# Altium integrated library STM32.IntLib: 732 symbols (part 90 of 99)
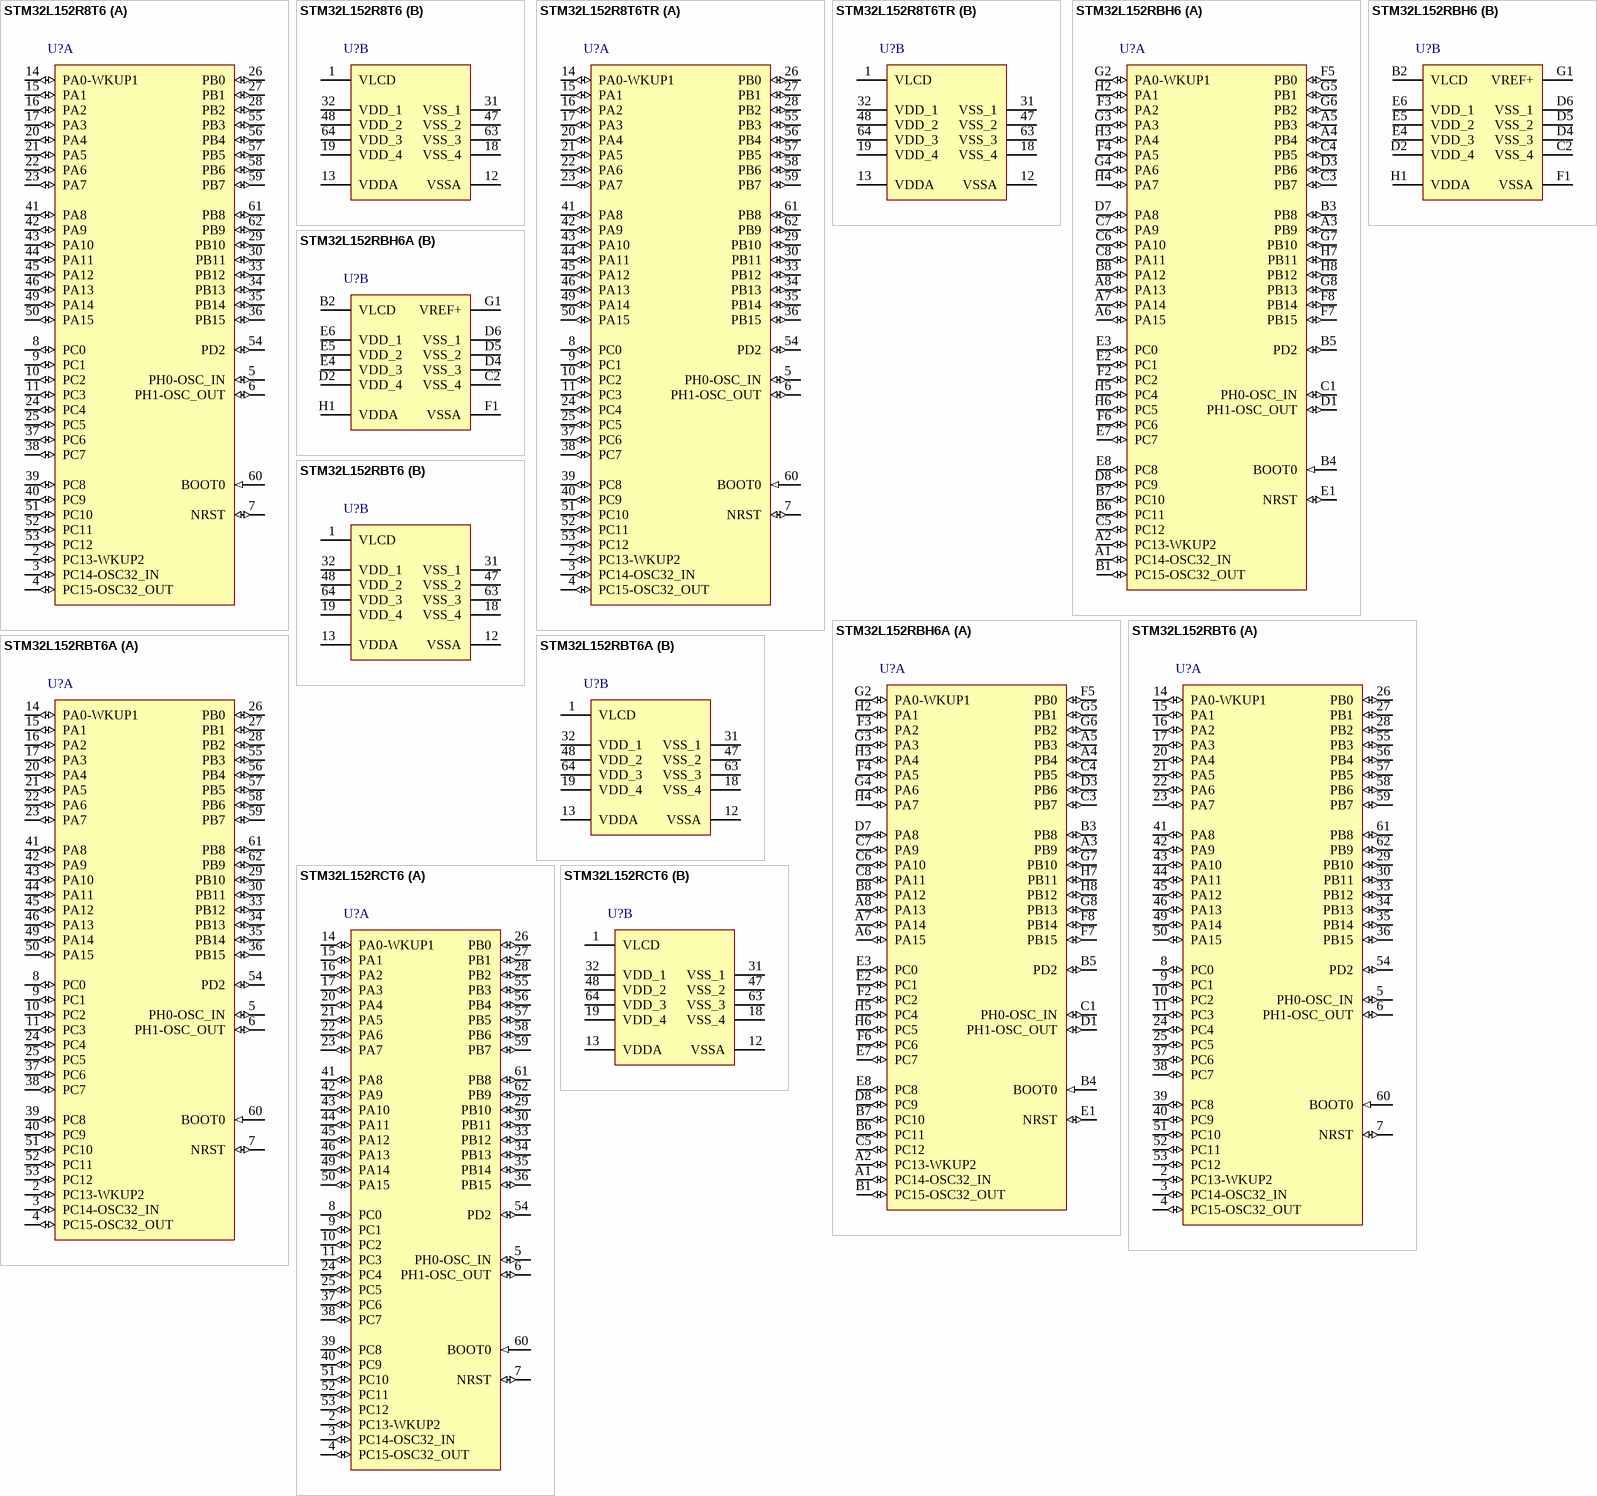
[diagram p243: symbols STM32L152R8T6 to STM32L152RCT6]

## STM32L152RCT6
designator U?
ARM Cortex-M3 32-bit MCU, 256 KB Flash, 32 KB Internal RAM, 51 I/Os, 64-pin LQFP, -40 to 85 degC, Tray; Manufacturer: STMicroelectronics; PartNumber: STM32L152RCT6; D/A Converter: 2x12-bit (2 Channel); Data E2PROM nom (B): 8192; Display controller: LCD 4x32/8x28; FLASH Size (Prog) (kB): 256; I/Os (High Current): 51; Internal RAM Size (kB): 32; Supply Voltage(Vcc) min (V): 1.65; DatasheetVersion: Rev. 3; PackageVersion: Rev. 4, 06/2013; PackageReference: LQFP64; PackageDescription: 64-Pin Low Profile Quad Flat Package, 10 x 10 mm Body, 0.5 mm Pitch; Core: ARM Cortex-M3; Operating Frequency(F) (Processor speed) (MHz): 32; Packing: Tray; Mounting Technology: Surface Mount; ComponentLink1Description: Manufacturer URL; ComponentLink1URL: http://www.st.com/web/en/home.html; ComponentLink2Description: Datasheet; ComponentLink2URL: http://www.st.com/st-web-ui/static/active/en/resource/technical/document/datasheet/DM00048356.pdf; ComponentLink3Description: Package Specification; ComponentLink3URL: http://www.st.com/st-web-ui/static/active/en/resource/technical/document/datasheet/DM00037051.pdf
footprint STM-LQFP64_N (Thin QFP, 64-Leads, Body 10x10mm, Pitch 0.5mm, IPC Medium Density)
footprint STM-LQFP64_L (Thin QFP, 64-Leads, Body 10x10mm, Pitch 0.5mm, IPC High Density)
footprint STM-LQFP64_M (Thin QFP, 64-Leads, Body 10x10mm, Pitch 0.5mm, IPC Low Density)
footprint STM-LQFP64_V (Thin QFP, 64-Leads, Body 10x10mm, Pitch 0.5mm, ST Recommended)
part A pins: 2 PC13-WKUP2 (io) "PC13-WKUP2/PC13/WKUP2/RTC_TAMP1/RTC_TS/RTC_OUT", 3 PC14-OSC32_IN (io) "PC14-OSC32_IN/PC14/OSC32_IN", 4 PC15-OSC32_OUT (io) "PC15-OSC32_OUT/PC15/OSC32_OUT", 5 PH0-OSC_IN (io) "PH0-OSC_IN/PH0/OSC_IN", 6 PH1-OSC_OUT (io) "PH1-OSC_OUT/PH1/OSC_OUT", 7 NRST (io), 8 PC0 (io) "PC0/LCD_SEG18/ADC_IN10/COMP1_INP", 9 PC1 (io) "PC1/LCD_SEG19/ADC_IN11/COMP1_INP", 10 PC2 (io) "PC2/LCD_SEG20/ADC_IN12/COMP1_INP", 11 PC3 (io) "PC3/LCD_SEG21/ADC_IN13/COMP1_INP", 14 PA0-WKUP1 (io) "PA0-WKUP1/PA0/WKUP1/RTC_TAMP2/TIM2_CH1_ETR/TIM5_CH1/USART2_CTS/ADC_IN0/COMP1_INP", 15 PA1 (io) "PA1/TIM2_CH2/TIM5_CH2/USART2_RTS/LCD_SEG0/ADC_IN1/COMP1_INP/OPAMP1_VINP", 16 PA2 (io) "PA2/TIM2_CH3/TIM5_CH3/TIM9_CH1/USART2_TX/LCD_SEG1/ADC_IN2/COMP1_INP/OPAMP1_VINM", 17 PA3 (io) "PA3/TIM2_CH4/TIM5_CH4/TIM9_CH2/USART2_RX/LCD_SEG2/ADC_IN3/COMP1_INP/OPAMP1_VOUT", 20 PA4 (io) "PA4/SPI1_NSS/SPI3_NSS/I2S3_WS/USART2_CK/ADC_IN4/DAC_OUT1/COMP1_INP", 21 PA5 (io) "PA5/TIM2_CH1_ETR/SPI1_SCK/ADC_IN5/DAC_OUT2/COMP1_INP", 22 PA6 (io) "PA6/TIM3_CH1/TIM10_CH1/SPI1_MISO/LCD_SEG3/ADC_IN6/COMP1_INP/OPAMP2_VINP", 23 PA7 (io) "PA7/TIM3_CH2/TIM11_CH1/SPI1_MOSI/LCD_SEG4/ADC_IN7/COMP1_INP/OPAMP2_VINM", 24 PC4 (io) "PC4/LCD_SEG22/ADC_IN14/COMP1_INP", 25 PC5 (io) "PC5/LCD_SEG23/ADC_IN15/COMP1_INP", 26 PB0 (io) "PB0/TIM3_CH3/LCD_SEG5/ADC_IN8/COMP1_INP/VREF_OUT/OPAMP2_VOUT", 27 PB1 (io) "PB1/TIM3_CH4/LCD_SEG6/ADC_IN9/COMP1_INP/VREF_OUT", 28 PB2 (io) "PB2/BOOT1/COMP1_INP", 29 PB10 (io) "PB10/TIM2_CH3/I2C2_SCL/USART3_TX/LCD_SEG10", 30 PB11 (io) "PB11/TIM2_CH4/I2C2_SDA/USART3_RX/LCD_SEG11", 33 PB12 (io) "PB12/TIM10_CH1/I2C2_SMBA/SPI2_NSS/I2S2_WS/USART3_CK/LCD_SEG12/ADC_IN18/COMP1_INP", 34 PB13 (io) "PB13/TIM9_CH1/SPI2_SCK/I2S2_CK/USART3_CTS/LCD_SEG13/ADC_IN19/COMP1_INP", 35 PB14 (io) "PB14/TIM9_CH2/SPI2_MISO/USART3_RTS/LCD_SEG14/ADC_IN20/COMP1_INP", 36 PB15 (io) "PB15/TIM11_CH1/SPI2_MOSI/I2S2_SD/LCD_SEG15/ADC_IN21/COMP1_INP/RTC_REFIN", 37 PC6 (io) "PC6/TIM3_CH1/I2S2_MCK/LCD_SEG24", 38 PC7 (io) "PC7/TIM3_CH2/I2S3_MCK/LCD_SEG25", 39 PC8 (io) "PC8/TIM3_CH3/LCD_SEG26", 40 PC9 (io) "PC9/TIM3_CH4/LCD_SEG27", 41 PA8 (io) "PA8/USART1_CK/MCO/LCD_COM0", 42 PA9 (io) "PA9/USART1_TX/LCD_COM1", 43 PA10 (io) "PA10/USART1_RX/LCD_COM2", 44 PA11 (io) "PA11/USART1_CTS/USB_DM/SPI1_MISO", 45 PA12 (io) "PA12/USART1_RTS/USB_DP/SPI1_MOSI", 46 PA13 (io) "PA13/JTMS-SWDAT", 49 PA14 (io) "PA14/JTCK-SWCLK", 50 PA15 (io) "PA15/JTDI/TIM2_CH1_ETR/SPI1_NSS/SPI3_NSS/I2S3_WS/LCD_SEG17", 51 PC10 (io) "PC10/SPI3_SCK/I2S3_CK/USART3_TX/LCD_SEG28/LCD_SEG40/LCD_COM4", 52 PC11 (io) "PC11/SPI3_MISO/USART3_RX/LCD_SEG29/LCD_SEG41/LCD_COM5", 53 PC12 (io) "PC12/SPI3_MOSI/I2S3_SD/USART3_CK/LCD_SEG30/LCD_SEG42/LCD_COM6", 54 PD2 (io) "PD2/TIM3_ETR/LCD_SEG31/LCD_SEG43/LCD_COM7", 55 PB3 (io) "PB3/JTDO/TIM2_CH2/SPI1_SCK/SPI3_SCK/I2S3_CK/LCD_SEG7/COMP2_INM", 56 PB4 (io) "PB4/NJTRST/TIM3_CH1/SPI1_MISO/SPI3_MISO/LCD_SEG8/COMP2_INP", 57 PB5 (io) "PB5/TIM3_CH2/I2C1_SMBA/SPI1_MOSI/SPI3_MOSI/I2S3_SD/LCD_SEG9/COMP2_INP", 58 PB6 (io) "PB6/TIM4_CH1/I2C1_SCL/USART1_TX/COMP2_INP", 59 PB7 (io) "PB7/TIM4_CH2/I2C1_SDA/USART1_RX/PVD_IN/COMP2_INP", 60 BOOT0 (in), 61 PB8 (io) "PB8/TIM4_CH3/TIM10_CH1/I2C1_SCL/LCD_SEG16", 62 PB9 (io) "PB9/TIM4_CH4/TIM11_CH1/I2C1_SDA/LCD_COM3"
part B pins: 1 VLCD (power), 12 VSSA (power), 13 VDDA (power), 18 VSS_4 (power), 19 VDD_4 (power), 31 VSS_1 (power), 32 VDD_1 (power), 47 VSS_2 (power), 48 VDD_2 (power), 63 VSS_3 (power), 64 VDD_3 (power)

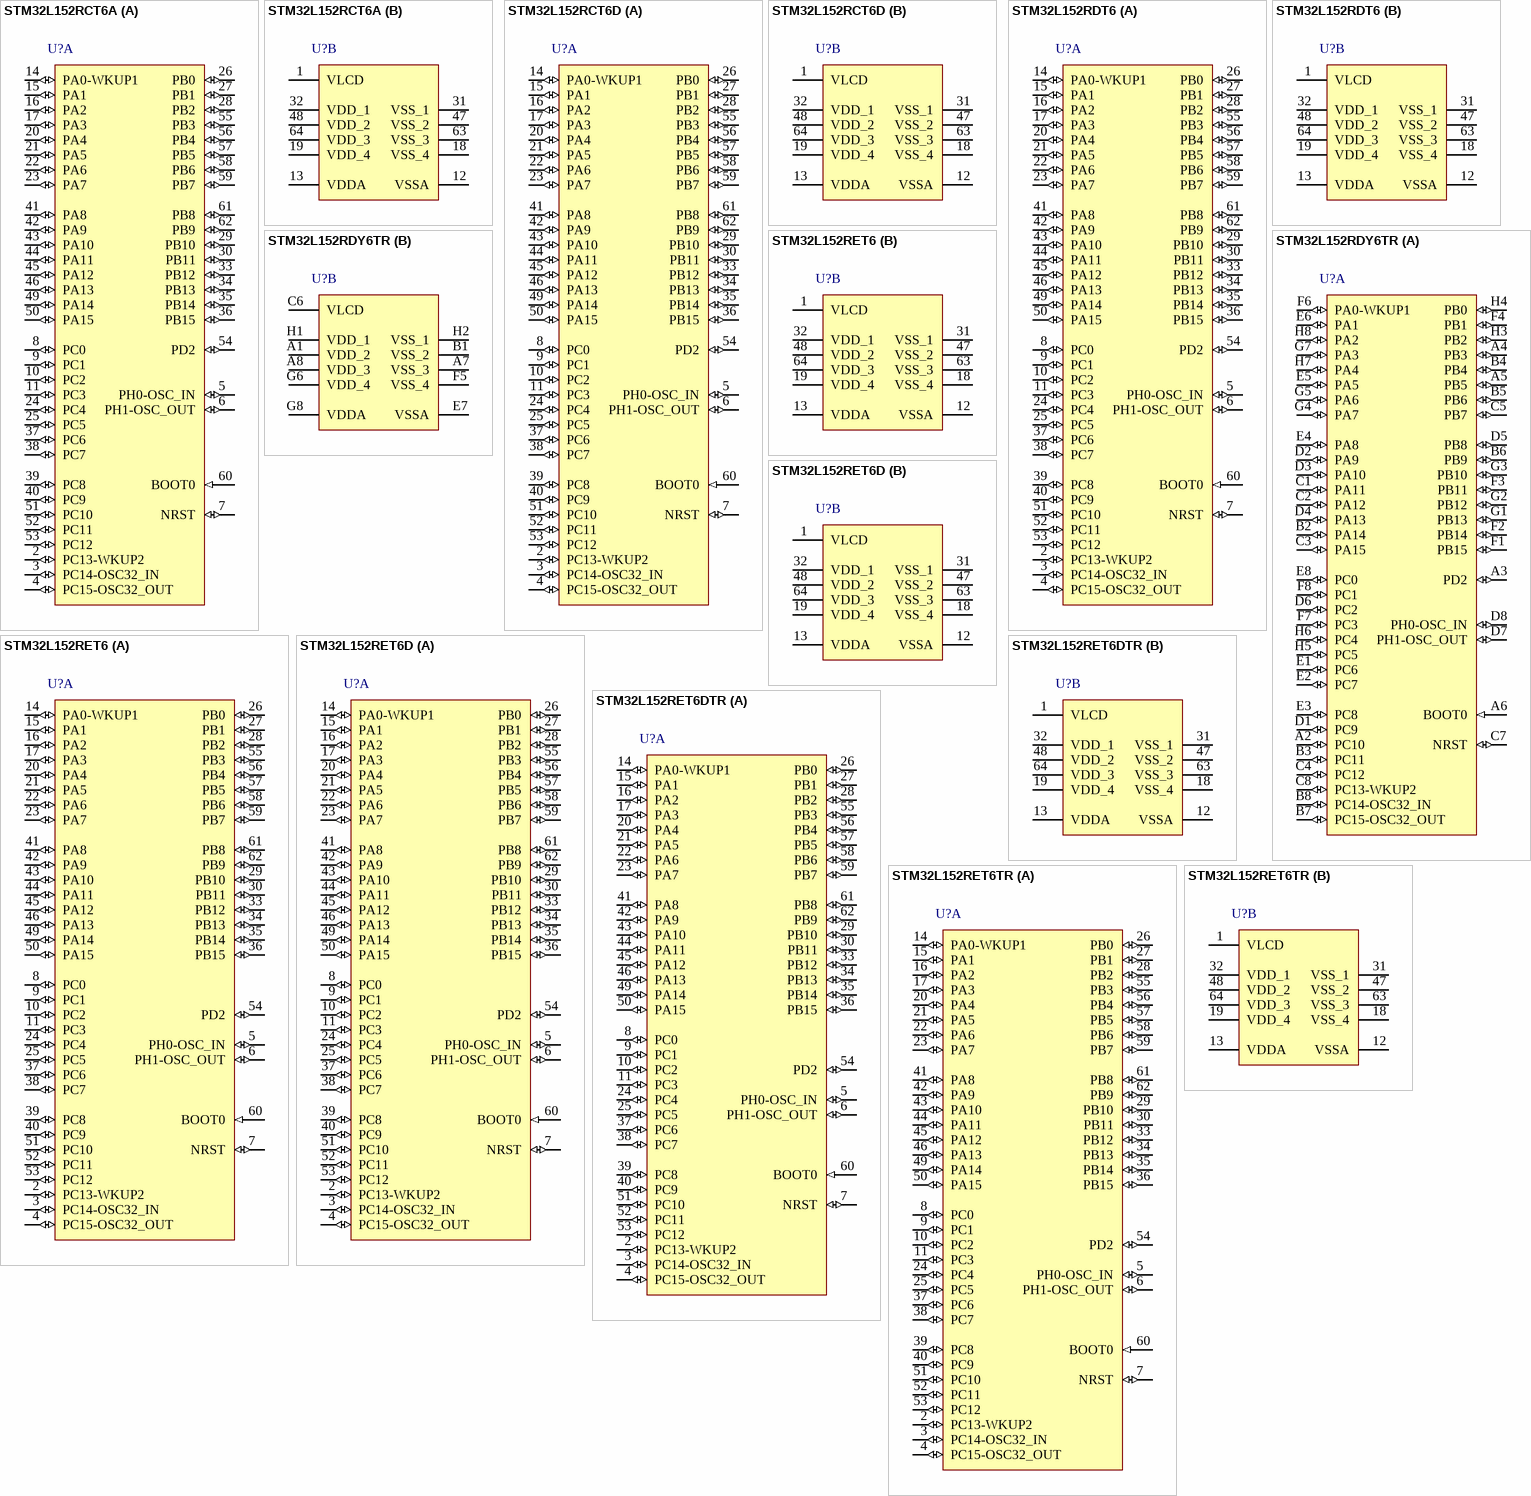
[diagram p138: symbols STM32L152RCT6A to STM32L152RET6TR]

## STM32L152RCT6A
designator U?
ARM Cortex-M3 32-bit MCU, 256 KB Flash, 32 KB Internal RAM, 51 I/Os, 64-pin LQFP, -40 to 85 degC, Tray; Manufacturer: STMicroelectronics; PartNumber: STM32L152RCT6A; D/A Converter: 2x12-bit (2 Channel); Data E2PROM nom (B): 8192; Display controller: LCD 4x32/8x28; FLASH Size (Prog) (kB): 256; I/Os (High Current): 51; Internal RAM Size (kB): 32; Supply Voltage(Vcc) min (V): 1.65; DatasheetVersion: Rev. 3; PackageVersion: Rev. 4, 06/2013; PackageReference: LQFP64; PackageDescription: 64-Pin Low Profile Quad Flat Package, 10 x 10 mm Body, 0.5 mm Pitch; Core: ARM Cortex-M3; Operating Frequency(F) (Processor speed) (MHz): 32; Packing: Tray; Mounting Technology: Surface Mount; ComponentLink1Description: Manufacturer URL; ComponentLink1URL: http://www.st.com/web/en/home.html; ComponentLink2Description: Datasheet; ComponentLink2URL: http://www.st.com/st-web-ui/static/active/en/resource/technical/document/datasheet/DM00048356.pdf; ComponentLink3Description: Package Specification; ComponentLink3URL: http://www.st.com/st-web-ui/static/active/en/resource/technical/document/datasheet/DM00037051.pdf
footprint STM-LQFP64_N (Thin QFP, 64-Leads, Body 10x10mm, Pitch 0.5mm, IPC Medium Density)
footprint STM-LQFP64_L (Thin QFP, 64-Leads, Body 10x10mm, Pitch 0.5mm, IPC High Density)
footprint STM-LQFP64_M (Thin QFP, 64-Leads, Body 10x10mm, Pitch 0.5mm, IPC Low Density)
footprint STM-LQFP64_V (Thin QFP, 64-Leads, Body 10x10mm, Pitch 0.5mm, ST Recommended)
part A pins: 2 PC13-WKUP2 (io) "PC13-WKUP2/PC13/WKUP2/RTC_TAMP1/RTC_TS/RTC_OUT", 3 PC14-OSC32_IN (io) "PC14-OSC32_IN/PC14/OSC32_IN", 4 PC15-OSC32_OUT (io) "PC15-OSC32_OUT/PC15/OSC32_OUT", 5 PH0-OSC_IN (io) "PH0-OSC_IN/PH0/OSC_IN", 6 PH1-OSC_OUT (io) "PH1-OSC_OUT/PH1/OSC_OUT", 7 NRST (io), 8 PC0 (io) "PC0/LCD_SEG18/ADC_IN10/COMP1_INP", 9 PC1 (io) "PC1/LCD_SEG19/ADC_IN11/COMP1_INP", 10 PC2 (io) "PC2/LCD_SEG20/ADC_IN12/COMP1_INP", 11 PC3 (io) "PC3/LCD_SEG21/ADC_IN13/COMP1_INP", 14 PA0-WKUP1 (io) "PA0-WKUP1/PA0/WKUP1/RTC_TAMP2/TIM2_CH1_ETR/TIM5_CH1/USART2_CTS/ADC_IN0/COMP1_INP", 15 PA1 (io) "PA1/TIM2_CH2/TIM5_CH2/USART2_RTS/LCD_SEG0/ADC_IN1/COMP1_INP/OPAMP1_VINP", 16 PA2 (io) "PA2/TIM2_CH3/TIM5_CH3/TIM9_CH1/USART2_TX/LCD_SEG1/ADC_IN2/COMP1_INP/OPAMP1_VINM", 17 PA3 (io) "PA3/TIM2_CH4/TIM5_CH4/TIM9_CH2/USART2_RX/LCD_SEG2/ADC_IN3/COMP1_INP/OPAMP1_VOUT", 20 PA4 (io) "PA4/SPI1_NSS/SPI3_NSS/I2S3_WS/USART2_CK/ADC_IN4/DAC_OUT1/COMP1_INP", 21 PA5 (io) "PA5/TIM2_CH1_ETR/SPI1_SCK/ADC_IN5/DAC_OUT2/COMP1_INP", 22 PA6 (io) "PA6/TIM3_CH1/TIM10_CH1/SPI1_MISO/LCD_SEG3/ADC_IN6/COMP1_INP/OPAMP2_VINP", 23 PA7 (io) "PA7/TIM3_CH2/TIM11_CH1/SPI1_MOSI/LCD_SEG4/ADC_IN7/COMP1_INP/OPAMP2_VINM", 24 PC4 (io) "PC4/LCD_SEG22/ADC_IN14/COMP1_INP", 25 PC5 (io) "PC5/LCD_SEG23/ADC_IN15/COMP1_INP", 26 PB0 (io) "PB0/TIM3_CH3/LCD_SEG5/ADC_IN8/COMP1_INP/VREF_OUT/OPAMP2_VOUT", 27 PB1 (io) "PB1/TIM3_CH4/LCD_SEG6/ADC_IN9/COMP1_INP/VREF_OUT", 28 PB2 (io) "PB2/BOOT1/COMP1_INP", 29 PB10 (io) "PB10/TIM2_CH3/I2C2_SCL/USART3_TX/LCD_SEG10", 30 PB11 (io) "PB11/TIM2_CH4/I2C2_SDA/USART3_RX/LCD_SEG11", 33 PB12 (io) "PB12/TIM10_CH1/I2C2_SMBA/SPI2_NSS/I2S2_WS/USART3_CK/LCD_SEG12/ADC_IN18/COMP1_INP", 34 PB13 (io) "PB13/TIM9_CH1/SPI2_SCK/I2S2_CK/USART3_CTS/LCD_SEG13/ADC_IN19/COMP1_INP", 35 PB14 (io) "PB14/TIM9_CH2/SPI2_MISO/USART3_RTS/LCD_SEG14/ADC_IN20/COMP1_INP", 36 PB15 (io) "PB15/TIM11_CH1/SPI2_MOSI/I2S2_SD/LCD_SEG15/ADC_IN21/COMP1_INP/RTC_REFIN", 37 PC6 (io) "PC6/TIM3_CH1/I2S2_MCK/LCD_SEG24", 38 PC7 (io) "PC7/TIM3_CH2/I2S3_MCK/LCD_SEG25", 39 PC8 (io) "PC8/TIM3_CH3/LCD_SEG26", 40 PC9 (io) "PC9/TIM3_CH4/LCD_SEG27", 41 PA8 (io) "PA8/USART1_CK/MCO/LCD_COM0", 42 PA9 (io) "PA9/USART1_TX/LCD_COM1", 43 PA10 (io) "PA10/USART1_RX/LCD_COM2", 44 PA11 (io) "PA11/USART1_CTS/USB_DM/SPI1_MISO", 45 PA12 (io) "PA12/USART1_RTS/USB_DP/SPI1_MOSI", 46 PA13 (io) "PA13/JTMS-SWDAT", 49 PA14 (io) "PA14/JTCK-SWCLK", 50 PA15 (io) "PA15/JTDI/TIM2_CH1_ETR/SPI1_NSS/SPI3_NSS/I2S3_WS/LCD_SEG17", 51 PC10 (io) "PC10/SPI3_SCK/I2S3_CK/USART3_TX/LCD_SEG28/LCD_SEG40/LCD_COM4", 52 PC11 (io) "PC11/SPI3_MISO/USART3_RX/LCD_SEG29/LCD_SEG41/LCD_COM5", 53 PC12 (io) "PC12/SPI3_MOSI/I2S3_SD/USART3_CK/LCD_SEG30/LCD_SEG42/LCD_COM6", 54 PD2 (io) "PD2/TIM3_ETR/LCD_SEG31/LCD_SEG43/LCD_COM7", 55 PB3 (io) "PB3/JTDO/TIM2_CH2/SPI1_SCK/SPI3_SCK/I2S3_CK/LCD_SEG7/COMP2_INM", 56 PB4 (io) "PB4/NJTRST/TIM3_CH1/SPI1_MISO/SPI3_MISO/LCD_SEG8/COMP2_INP", 57 PB5 (io) "PB5/TIM3_CH2/I2C1_SMBA/SPI1_MOSI/SPI3_MOSI/I2S3_SD/LCD_SEG9/COMP2_INP", 58 PB6 (io) "PB6/TIM4_CH1/I2C1_SCL/USART1_TX/COMP2_INP", 59 PB7 (io) "PB7/TIM4_CH2/I2C1_SDA/USART1_RX/PVD_IN/COMP2_INP", 60 BOOT0 (in), 61 PB8 (io) "PB8/TIM4_CH3/TIM10_CH1/I2C1_SCL/LCD_SEG16", 62 PB9 (io) "PB9/TIM4_CH4/TIM11_CH1/I2C1_SDA/LCD_COM3"
part B pins: 1 VLCD (power), 12 VSSA (power), 13 VDDA (power), 18 VSS_4 (power), 19 VDD_4 (power), 31 VSS_1 (power), 32 VDD_1 (power), 47 VSS_2 (power), 48 VDD_2 (power), 63 VSS_3 (power), 64 VDD_3 (power)

## STM32L152RCT6D
designator U?
ARM Cortex-M3 32-bit MCU, 256 KB Flash, 32 KB Internal RAM, 51 I/Os, 64-pin LQFP, -40 to 85 degC, Tray; Manufacturer: STMicroelectronics; PartNumber: STM32L152RCT6D; D/A Converter: 2x12-bit (2 Channel); Data E2PROM nom (B): 8192; Display controller: LCD 4x32/8x28; FLASH Size (Prog) (kB): 256; I/Os (High Current): 51; Internal RAM Size (kB): 32; Supply Voltage(Vcc) min (V): 1.65; DatasheetVersion: Rev. 3; PackageVersion: Rev. 4, 06/2013; PackageReference: LQFP64; PackageDescription: 64-Pin Low Profile Quad Flat Package, 10 x 10 mm Body, 0.5 mm Pitch; Core: ARM Cortex-M3; Operating Frequency(F) (Processor speed) (MHz): 32; Packing: Tray; Mounting Technology: Surface Mount; ComponentLink1Description: Manufacturer URL; ComponentLink1URL: http://www.st.com/web/en/home.html; ComponentLink2Description: Datasheet; ComponentLink2URL: http://www.st.com/st-web-ui/static/active/en/resource/technical/document/datasheet/DM00048356.pdf; ComponentLink3Description: Package Specification; ComponentLink3URL: http://www.st.com/st-web-ui/static/active/en/resource/technical/document/datasheet/DM00037051.pdf
footprint STM-LQFP64_N (Thin QFP, 64-Leads, Body 10x10mm, Pitch 0.5mm, IPC Medium Density)
footprint STM-LQFP64_L (Thin QFP, 64-Leads, Body 10x10mm, Pitch 0.5mm, IPC High Density)
footprint STM-LQFP64_M (Thin QFP, 64-Leads, Body 10x10mm, Pitch 0.5mm, IPC Low Density)
footprint STM-LQFP64_V (Thin QFP, 64-Leads, Body 10x10mm, Pitch 0.5mm, ST Recommended)
part A pins: 2 PC13-WKUP2 (io) "PC13-WKUP2/PC13/WKUP2/RTC_TAMP1/RTC_TS/RTC_OUT", 3 PC14-OSC32_IN (io) "PC14-OSC32_IN/PC14/OSC32_IN", 4 PC15-OSC32_OUT (io) "PC15-OSC32_OUT/PC15/OSC32_OUT", 5 PH0-OSC_IN (io) "PH0-OSC_IN/PH0/OSC_IN", 6 PH1-OSC_OUT (io) "PH1-OSC_OUT/PH1/OSC_OUT", 7 NRST (io), 8 PC0 (io) "PC0/LCD_SEG18/ADC_IN10/COMP1_INP", 9 PC1 (io) "PC1/LCD_SEG19/ADC_IN11/COMP1_INP", 10 PC2 (io) "PC2/LCD_SEG20/ADC_IN12/COMP1_INP", 11 PC3 (io) "PC3/LCD_SEG21/ADC_IN13/COMP1_INP", 14 PA0-WKUP1 (io) "PA0-WKUP1/PA0/WKUP1/RTC_TAMP2/TIM2_CH1_ETR/TIM5_CH1/USART2_CTS/ADC_IN0/COMP1_INP", 15 PA1 (io) "PA1/TIM2_CH2/TIM5_CH2/USART2_RTS/LCD_SEG0/ADC_IN1/COMP1_INP/OPAMP1_VINP", 16 PA2 (io) "PA2/TIM2_CH3/TIM5_CH3/TIM9_CH1/USART2_TX/LCD_SEG1/ADC_IN2/COMP1_INP/OPAMP1_VINM", 17 PA3 (io) "PA3/TIM2_CH4/TIM5_CH4/TIM9_CH2/USART2_RX/LCD_SEG2/ADC_IN3/COMP1_INP/OPAMP1_VOUT", 20 PA4 (io) "PA4/SPI1_NSS/SPI3_NSS/I2S3_WS/USART2_CK/ADC_IN4/DAC_OUT1/COMP1_INP", 21 PA5 (io) "PA5/TIM2_CH1_ETR/SPI1_SCK/ADC_IN5/DAC_OUT2/COMP1_INP", 22 PA6 (io) "PA6/TIM3_CH1/TIM10_CH1/SPI1_MISO/LCD_SEG3/ADC_IN6/COMP1_INP/OPAMP2_VINP", 23 PA7 (io) "PA7/TIM3_CH2/TIM11_CH1/SPI1_MOSI/LCD_SEG4/ADC_IN7/COMP1_INP/OPAMP2_VINM", 24 PC4 (io) "PC4/LCD_SEG22/ADC_IN14/COMP1_INP", 25 PC5 (io) "PC5/LCD_SEG23/ADC_IN15/COMP1_INP", 26 PB0 (io) "PB0/TIM3_CH3/LCD_SEG5/ADC_IN8/COMP1_INP/VREF_OUT/OPAMP2_VOUT", 27 PB1 (io) "PB1/TIM3_CH4/LCD_SEG6/ADC_IN9/COMP1_INP/VREF_OUT", 28 PB2 (io) "PB2/BOOT1/COMP1_INP", 29 PB10 (io) "PB10/TIM2_CH3/I2C2_SCL/USART3_TX/LCD_SEG10", 30 PB11 (io) "PB11/TIM2_CH4/I2C2_SDA/USART3_RX/LCD_SEG11", 33 PB12 (io) "PB12/TIM10_CH1/I2C2_SMBA/SPI2_NSS/I2S2_WS/USART3_CK/LCD_SEG12/ADC_IN18/COMP1_INP", 34 PB13 (io) "PB13/TIM9_CH1/SPI2_SCK/I2S2_CK/USART3_CTS/LCD_SEG13/ADC_IN19/COMP1_INP", 35 PB14 (io) "PB14/TIM9_CH2/SPI2_MISO/USART3_RTS/LCD_SEG14/ADC_IN20/COMP1_INP", 36 PB15 (io) "PB15/TIM11_CH1/SPI2_MOSI/I2S2_SD/LCD_SEG15/ADC_IN21/COMP1_INP/RTC_REFIN", 37 PC6 (io) "PC6/TIM3_CH1/I2S2_MCK/LCD_SEG24", 38 PC7 (io) "PC7/TIM3_CH2/I2S3_MCK/LCD_SEG25", 39 PC8 (io) "PC8/TIM3_CH3/LCD_SEG26", 40 PC9 (io) "PC9/TIM3_CH4/LCD_SEG27", 41 PA8 (io) "PA8/USART1_CK/MCO/LCD_COM0", 42 PA9 (io) "PA9/USART1_TX/LCD_COM1", 43 PA10 (io) "PA10/USART1_RX/LCD_COM2", 44 PA11 (io) "PA11/USART1_CTS/USB_DM/SPI1_MISO", 45 PA12 (io) "PA12/USART1_RTS/USB_DP/SPI1_MOSI", 46 PA13 (io) "PA13/JTMS-SWDAT", 49 PA14 (io) "PA14/JTCK-SWCLK", 50 PA15 (io) "PA15/JTDI/TIM2_CH1_ETR/SPI1_NSS/SPI3_NSS/I2S3_WS/LCD_SEG17", 51 PC10 (io) "PC10/SPI3_SCK/I2S3_CK/USART3_TX/LCD_SEG28/LCD_SEG40/LCD_COM4", 52 PC11 (io) "PC11/SPI3_MISO/USART3_RX/LCD_SEG29/LCD_SEG41/LCD_COM5", 53 PC12 (io) "PC12/SPI3_MOSI/I2S3_SD/USART3_CK/LCD_SEG30/LCD_SEG42/LCD_COM6", 54 PD2 (io) "PD2/TIM3_ETR/LCD_SEG31/LCD_SEG43/LCD_COM7", 55 PB3 (io) "PB3/JTDO/TIM2_CH2/SPI1_SCK/SPI3_SCK/I2S3_CK/LCD_SEG7/COMP2_INM", 56 PB4 (io) "PB4/NJTRST/TIM3_CH1/SPI1_MISO/SPI3_MISO/LCD_SEG8/COMP2_INP", 57 PB5 (io) "PB5/TIM3_CH2/I2C1_SMBA/SPI1_MOSI/SPI3_MOSI/I2S3_SD/LCD_SEG9/COMP2_INP", 58 PB6 (io) "PB6/TIM4_CH1/I2C1_SCL/USART1_TX/COMP2_INP", 59 PB7 (io) "PB7/TIM4_CH2/I2C1_SDA/USART1_RX/PVD_IN/COMP2_INP", 60 BOOT0 (in), 61 PB8 (io) "PB8/TIM4_CH3/TIM10_CH1/I2C1_SCL/LCD_SEG16", 62 PB9 (io) "PB9/TIM4_CH4/TIM11_CH1/I2C1_SDA/LCD_COM3"
part B pins: 1 VLCD (power), 12 VSSA (power), 13 VDDA (power), 18 VSS_4 (power), 19 VDD_4 (power), 31 VSS_1 (power), 32 VDD_1 (power), 47 VSS_2 (power), 48 VDD_2 (power), 63 VSS_3 (power), 64 VDD_3 (power)

## STM32L152RDT6
designator U?
ARM Cortex-M3 32-bit MCU, 384 KB Flash, 48 KB Internal RAM, 51 I/Os, 64-pin LQFP, -40 to 85 degC, Tray; Manufacturer: STMicroelectronics; PartNumber: STM32L152RDT6; D/A Converter: 2x12-bit (2 Channel); Data E2PROM nom (B): 12288; FLASH Size (Prog) (kB): 384; I/Os (High Current): 51; Integrated op-amps: 3; Internal RAM Size (kB): 48; Operating Frequency(F) (Processor speed) (MHz): 32; Supply Voltage(Vcc) min (V): 1.65; DatasheetVersion: Rev. 6; PackageVersion: Rev. 4, 06/2013; PackageReference: LQFP64; PackageDescription: 64-Pin Low Profile Quad Flat Package, 10 x 10 mm Body, 0.5 mm Pitch; Core: ARM Cortex-M3; Packing: Tray; Mounting Technology: Surface Mount; ComponentLink1Description: Manufacturer URL; ComponentLink1URL: http://www.st.com/web/en/home.html; ComponentLink2Description: Datasheet; ComponentLink2URL: http://www.st.com/st-web-ui/static/active/en/resource/technical/document/datasheet/DM00034689.pdf; ComponentLink3Description: Package Specification; ComponentLink3URL: http://www.st.com/st-web-ui/static/active/en/resource/technical/document/datasheet/DM00037051.pdf
footprint STM-LQFP64_N (Thin QFP, 64-Leads, Body 10x10mm, Pitch 0.5mm, IPC Medium Density)
footprint STM-LQFP64_L (Thin QFP, 64-Leads, Body 10x10mm, Pitch 0.5mm, IPC High Density)
footprint STM-LQFP64_M (Thin QFP, 64-Leads, Body 10x10mm, Pitch 0.5mm, IPC Low Density)
footprint STM-LQFP64_V (Thin QFP, 64-Leads, Body 10x10mm, Pitch 0.5mm, ST Recommended)
part A pins: 2 PC13-WKUP2 (io) "PC13-WKUP2/PC13/WKUP2/RTC_TAMP1/RTC_TS/RTC_OUT", 3 PC14-OSC32_IN (io) "PC14-OSC32_IN/PC14/OSC32_IN", 4 PC15-OSC32_OUT (io) "PC15-OSC32_OUT/PC15/OSC32_OUT", 5 PH0-OSC_IN (io) "PH0-OSC_IN/PH0/OSC_IN", 6 PH1-OSC_OUT (io) "PH1-OSC_OUT/PH1/OSC_OUT", 7 NRST (io), 8 PC0 (io) "PC0/LCD_SEG18/ADC_IN10/COMP1_INP", 9 PC1 (io) "PC1/LCD_SEG19/ADC_IN11/COMP1_INP/OPAMP3_VINP", 10 PC2 (io) "PC2/LCD_SEG20/ADC_IN12/COMP1_INP/OPAMP3_VINM", 11 PC3 (io) "PC3/LCD_SEG21/ADC_IN13/COMP1_INP/OPAMP3_VOUT", 14 PA0-WKUP1 (io) "PA0-WKUP1/PA0/WKUP1/RTC_TAMP2/TIM2_CH1_ETR/TIM5_CH1/USART2_CTS/ADC_IN0/COMP1_INP", 15 PA1 (io) "PA1/TIM2_CH2/TIM5_CH2/USART2_RTS/LCD_SEG0/ADC_IN1/COMP1_INP/OPAMP1_VINP", 16 PA2 (io) "PA2/TIM2_CH3/TIM5_CH3/TIM9_CH1/USART2_TX/LCD_SEG1/ADC_IN2/COMP1_INP/OPAMP1_VINM", 17 PA3 (io) "PA3/TIM2_CH4/TIM5_CH4/TIM9_CH2/USART2_RX/LCD_SEG2/ADC_IN3/COMP1_INP/OPAMP1_VOUT", 20 PA4 (io) "PA4/SPI1_NSS/SPI3_NSS/I2S3_WS/USART2_CK/ADC_IN4/DAC_OUT1/COMP1_INP", 21 PA5 (io) "PA5/TIM2_CH1_ETR/SPI1_SCK/ADC_IN5/DAC_OUT2/COMP1_INP", 22 PA6 (io) "PA6/TIM3_CH1/TIM10_CH1/SPI1_MISO/LCD_SEG3/ADC_IN6/COMP1_INP/OPAMP2_VINP", 23 PA7 (io) "PA7/TIM3_CH2/TIM11_CH1/SPI1_MOSI/LCD_SEG4/ADC_IN7/COMP1_INP/OPAMP2_VINM", 24 PC4 (io) "PC4/LCD_SEG22/ADC_IN14/COMP1_INP", 25 PC5 (io) "PC5/LCD_SEG23/ADC_IN15/COMP1_INP", 26 PB0 (io) "PB0/TIM3_CH3/LCD_SEG5/ADC_IN8/COMP1_INP/VREF_OUT/OPAMP2_VOUT", 27 PB1 (io) "PB1/TIM3_CH4/LCD_SEG6/ADC_IN9/COMP1_INP/VREF_OUT", 28 PB2 (io) "PB2/BOOT1/COMP1_INP", 29 PB10 (io) "PB10/TIM2_CH3/I2C2_SCL/USART3_TX/LCD_SEG10", 30 PB11 (io) "PB11/TIM2_CH4/I2C2_SDA/USART3_RX/LCD_SEG11", 33 PB12 (io) "PB12/TIM10_CH1/I2C2_SMBA/SPI2_NSS/I2S2_WS/USART3_CK/LCD_SEG12/ADC_IN18/COMP1_INP", 34 PB13 (io) "PB13/TIM9_CH1/SPI2_SCK/I2S2_CK/USART3_CTS/LCD_SEG13/ADC_IN19/COMP1_INP", 35 PB14 (io) "PB14/TIM9_CH2/SPI2_MISO/USART3_RTS/LCD_SEG14/ADC_IN20/COMP1_INP", 36 PB15 (io) "PB15/TIM11_CH1/SPI2_MOSI/I2S2_SD/LCD_SEG15/ADC_IN21/COMP1_INP/RTC_REFIN", 37 PC6 (io) "PC6/TIM3_CH1/I2S2_MCK/LCD_SEG24/SDIO_D6", 38 PC7 (io) "PC7/TIM3_CH2/I2S3_MCK/LCD_SEG25/SDIO_D7", 39 PC8 (io) "PC8/TIM3_CH3/LCD_SEG26/SDIO_D0", 40 PC9 (io) "PC9/TIM3_CH4/LCD_SEG27/SDIO_D1", 41 PA8 (io) "PA8/USART1_CK/MCO/LCD_COM0", 42 PA9 (io) "PA9/USART1_TX/LCD_COM1", 43 PA10 (io) "PA10/USART1_RX/LCD_COM2", 44 PA11 (io) "PA11/USART1_CTS/USB_DM/SPI1_MISO", 45 PA12 (io) "PA12/USART1_RTS/USB_DP/SPI1_MOSI", 46 PA13 (io) "PA13/JTMS-SWDAT", 49 PA14 (io) "PA14/JTCK-SWCLK", 50 PA15 (io) "PA15/JTDI/TIM2_CH1_ETR/SPI1_NSS/SPI3_NSS/I2S3_WS/LCD_SEG17", 51 PC10 (io) "PC10/SPI3_SCK/I2S3_CK/USART3_TX/UART4_TX/LCD_SEG28/LCD_SEG40/LCD_COM4/SDIO_D2", 52 PC11 (io) "PC11/SPI3_MISO/USART3_RX/UART4_RX/LCD_SEG29/LCD_SEG41/LCD_COM5/SDIO_D3", 53 PC12 (io) "PC12/SPI3_MOSI/I2S3_SD/USART3_CK/UART5_TX/LCD_SEG30/LCD_SEG42/LCD_COM6/SDIO_CK", 54 PD2 (io) "PD2/TIM3_ETR/UART5_RX/LCD_SEG31/LCD_SEG43/LCD_COM7/SDIO_CMD", 55 PB3 (io) "PB3/JTDO/TIM2_CH2/SPI1_SCK/SPI3_SCK/I2S3_CK/LCD_SEG7/COMP2_INM", 56 PB4 (io) "PB4/NJTRST/TIM3_CH1/SPI1_MISO/SPI3_MISO/LCD_SEG8/COMP2_INP", 57 PB5 (io) "PB5/TIM3_CH2/I2C1_SMBA/SPI1_MOSI/SPI3_MOSI/I2S3_SD/LCD_SEG9/COMP2_INP", 58 PB6 (io) "PB6/TIM4_CH1/I2C1_SCL/USART1_TX/COMP2_INP", 59 PB7 (io) "PB7/TIM4_CH2/I2C1_SDA/USART1_RX/PVD_IN/FSMC_NADV/COMP2_INP", 60 BOOT0 (in), 61 PB8 (io) "PB8/TIM4_CH3/TIM10_CH1/I2C1_SCL/LCD_SEG16/SDIO_D4", 62 PB9 (io) "PB9/TIM4_CH4/TIM11_CH1/I2C1_SDA/LCD_COM3/SDIO_D5"
part B pins: 1 VLCD (power), 12 VSSA (power), 13 VDDA (power), 18 VSS_4 (power), 19 VDD_4 (power), 31 VSS_1 (power), 32 VDD_1 (power), 47 VSS_2 (power), 48 VDD_2 (power), 63 VSS_3 (power), 64 VDD_3 (power)

## STM32L152RDY6TR
designator U?
ARM Cortex-M3 32-bit MCU, 384 KB Flash, 48 KB Internal RAM, 51 I/Os, 64-pin WLCSP, -40 to 85 degC, Tape and Reel; Manufacturer: STMicroelectronics; PartNumber: STM32L152RDY6TR; D/A Converter: 2x12-bit (2 Channel); Data E2PROM nom (B): 12288; FLASH Size (Prog) (kB): 384; I/Os (High Current): 51; Integrated op-amps: 3; Internal RAM Size (kB): 48; Operating Frequency(F) (Processor speed) (MHz): 32; Supply Voltage(Vcc) min (V): 1.65; DatasheetVersion: Rev. 6; PackageVersion: Rev. 6, 02/2013; PackageReference: WLCSP64; PackageDescription: 64-Ball Wafer Level Chip Scale Package, 4.911 x 4.539 mm Body, 0.4 mm Pitch; Core: ARM Cortex-M3; Packing: Tape and Reel; Mounting Technology: Surface Mount; ComponentLink1Description: Manufacturer URL; ComponentLink1URL: http://www.st.com/web/en/home.html; ComponentLink2Description: Datasheet; ComponentLink2URL: http://www.st.com/st-web-ui/static/active/en/resource/technical/document/datasheet/DM00034689.pdf; ComponentLink3Description: Package Specification; ComponentLink3URL: http://www.st.com/st-web-ui/static/active/en/resource/technical/document/datasheet/DM00034689.pdf
footprint STM-WLCSP64_A (BGA, 64-Balls, Body 4.91x4.54mm, Pitch 0.4mm)
part A pins: A2 PC10 (io) "PC10/SPI3_SCK/I2S3_CK/USART3_TX/UART4_TX/LCD_SEG28/LCD_SEG40/LCD_COM4/SDIO_D2", A3 PD2 (io) "PD2/TIM3_ETR/UART5_RX/LCD_SEG31/LCD_SEG43/LCD_COM7/SDIO_CMD", A4 PB3 (io) "PB3/JTDO/TIM2_CH2/SPI1_SCK/SPI3_SCK/I2S3_CK/LCD_SEG7/COMP2_INM", A5 PB5 (io) "PB5/TIM3_CH2/I2C1_SMBA/SPI1_MOSI/SPI3_MOSI/I2S3_SD/LCD_SEG9/COMP2_INP", A6 BOOT0 (in), B2 PA14 (io) "PA14/JTCK-SWCLK", B3 PC11 (io) "PC11/SPI3_MISO/USART3_RX/UART4_RX/LCD_SEG29/LCD_SEG41/LCD_COM5/SDIO_D3", B4 PB4 (io) "PB4/NJTRST/TIM3_CH1/SPI1_MISO/SPI3_MISO/LCD_SEG8/COMP2_INP", B5 PB6 (io) "PB6/TIM4_CH1/I2C1_SCL/USART1_TX/COMP2_INP", B6 PB9 (io) "PB9/TIM4_CH4/TIM11_CH1/I2C1_SDA/LCD_COM3/SDIO_D5", B7 PC15-OSC32_OUT (io) "PC15-OSC32_OUT/PC15/OSC32_OUT", B8 PC14-OSC32_IN (io) "PC14-OSC32_IN/PC14/OSC32_IN", C1 PA11 (io) "PA11/USART1_CTS/USB_DM/SPI1_MISO", C2 PA12 (io) "PA12/USART1_RTS/USB_DP/SPI1_MOSI", C3 PA15 (io) "PA15/JTDI/TIM2_CH1_ETR/SPI1_NSS/SPI3_NSS/I2S3_WS/LCD_SEG17", C4 PC12 (io) "PC12/SPI3_MOSI/I2S3_SD/USART3_CK/UART5_TX/LCD_SEG30/LCD_SEG42/LCD_COM6/SDIO_CK", C5 PB7 (io) "PB7/TIM4_CH2/I2C1_SDA/USART1_RX/PVD_IN/FSMC_NADV/COMP2_INP", C7 NRST (io), C8 PC13-WKUP2 (io) "PC13-WKUP2/PC13/WKUP2/RTC_TAMP1/RTC_TS/RTC_OUT", D1 PC9 (io) "PC9/TIM3_CH4/LCD_SEG27/SDIO_D1", D2 PA9 (io) "PA9/USART1_TX/LCD_COM1", D3 PA10 (io) "PA10/USART1_RX/LCD_COM2", D4 PA13 (io) "PA13/JTMS-SWDAT", D5 PB8 (io) "PB8/TIM4_CH3/TIM10_CH1/I2C1_SCL/LCD_SEG16/SDIO_D4", D6 PC2 (io) "PC2/LCD_SEG20/ADC_IN12/COMP1_INP/OPAMP3_VINM", D7 PH1-OSC_OUT (io) "PH1-OSC_OUT/PH1/OSC_OUT", D8 PH0-OSC_IN (io) "PH0-OSC_IN/PH0/OSC_IN", E1 PC6 (io) "PC6/TIM3_CH1/I2S2_MCK/LCD_SEG24/SDIO_D6", E2 PC7 (io) "PC7/TIM3_CH2/I2S3_MCK/LCD_SEG25/SDIO_D7", E3 PC8 (io) "PC8/TIM3_CH3/LCD_SEG26/SDIO_D0", E4 PA8 (io) "PA8/USART1_CK/MCO/LCD_COM0", E5 PA5 (io) "PA5/TIM2_CH1_ETR/SPI1_SCK/ADC_IN5/DAC_OUT2/COMP1_INP", E6 PA1 (io) "PA1/TIM2_CH2/TIM5_CH2/USART2_RTS/LCD_SEG0/ADC_IN1/COMP1_INP/OPAMP1_VINP", E8 PC0 (io) "PC0/LCD_SEG18/ADC_IN10/COMP1_INP", F1 PB15 (io) "PB15/TIM11_CH1/SPI2_MOSI/I2S2_SD/LCD_SEG15/ADC_IN21/COMP1_INP/RTC_REFIN", F2 PB14 (io) "PB14/TIM9_CH2/SPI2_MISO/USART3_RTS/LCD_SEG14/ADC_IN20/COMP1_INP", F3 PB11 (io) "PB11/TIM2_CH4/I2C2_SDA/USART3_RX/LCD_SEG11", F4 PB1 (io) "PB1/TIM3_CH4/LCD_SEG6/ADC_IN9/COMP1_INP/VREF_OUT", F6 PA0-WKUP1 (io) "PA0-WKUP1/PA0/WKUP1/RTC_TAMP2/TIM2_CH1_ETR/TIM5_CH1/USART2_CTS/ADC_IN0/COMP1_INP", F7 PC3 (io) "PC3/LCD_SEG21/ADC_IN13/COMP1_INP/OPAMP3_VOUT", F8 PC1 (io) "PC1/LCD_SEG19/ADC_IN11/COMP1_INP/OPAMP3_VINP", G1 PB13 (io) "PB13/TIM9_CH1/SPI2_SCK/I2S2_CK/USART3_CTS/LCD_SEG13/ADC_IN19/COMP1_INP", G2 PB12 (io) "PB12/TIM10_CH1/I2C2_SMBA/SPI2_NSS/I2S2_WS/USART3_CK/LCD_SEG12/ADC_IN18/COMP1_INP", G3 PB10 (io) "PB10/TIM2_CH3/I2C2_SCL/USART3_TX/LCD_SEG10", G4 PA7 (io) "PA7/TIM3_CH2/TIM11_CH1/SPI1_MOSI/LCD_SEG4/ADC_IN7/COMP1_INP/OPAMP2_VINM", G5 PA6 (io) "PA6/TIM3_CH1/TIM10_CH1/SPI1_MISO/LCD_SEG3/ADC_IN6/COMP1_INP/OPAMP2_VINP", G7 PA3 (io) "PA3/TIM2_CH4/TIM5_CH4/TIM9_CH2/USART2_RX/LCD_SEG2/ADC_IN3/COMP1_INP/OPAMP1_VOUT", H3 PB2 (io) "PB2/BOOT1/COMP1_INP", H4 PB0 (io) "PB0/TIM3_CH3/LCD_SEG5/ADC_IN8/COMP1_INP/VREF_OUT/OPAMP2_VOUT", H5 PC5 (io) "PC5/LCD_SEG23/ADC_IN15/COMP1_INP", H6 PC4 (io) "PC4/LCD_SEG22/ADC_IN14/COMP1_INP", H7 PA4 (io) "PA4/SPI1_NSS/SPI3_NSS/I2S3_WS/USART2_CK/ADC_IN4/DAC_OUT1/COMP1_INP", H8 PA2 (io) "PA2/TIM2_CH3/TIM5_CH3/TIM9_CH1/USART2_TX/LCD_SEG1/ADC_IN2/COMP1_INP/OPAMP1_VINM"
part B pins: A1 VDD_2 (power), A7 VSS_3 (power), A8 VDD_3 (power), B1 VSS_2 (power), C6 VLCD (power), E7 VSSA (power), F5 VSS_4 (power), G6 VDD_4 (power), G8 VDDA (power), H1 VDD_1 (power), H2 VSS_1 (power)

## STM32L152RET6
designator U?
ARM Cortex-M3 32-bit MCU, 512 KB Flash, 80 KB Internal RAM, 51 I/Os, 64-pin LQFP, -40 to 85 degC, Tray; Manufacturer: STMicroelectronics; PartNumber: STM32L152RET6; D/A Converter: 2x12-bit (2 Channel); Data E2PROM nom (KB): 16; FLASH Size (Prog) (kB): 512; I/Os (High Current): 51; Internal RAM Size (kB): 80; Operating Frequency(F) (Processor speed) (MHz): 32; Supply Voltage (V): 1.8 to 3.6 V; DatasheetVersion: Rev. 4; PackageVersion: Rev. 4; PackageReference: LQFP64; PackageDescription: 64-Pin Low Profile Quad Flat Package, Body 10 x 10 mm, Pitch 0.5 mm; Core: ARM Cortex-M3; Temperature Range: -40 to 85 degC; Packing: Tray; Mounting Technology: Surface Mount; ComponentLink1Description: Manufacturer URL; ComponentLink1URL: http://www.st.com/web/en/home.html; ComponentLink2Description: Datasheet; ComponentLink2URL: http://www.st.com/st-web-ui/static/active/en/resource/technical/document/datasheet/DM00098321.pdf; ComponentLink3Description: Package Specification; ComponentLink3URL: http://www.st.com/st-web-ui/static/active/en/resource/technical/document/datasheet/DM00098321.pdf
footprint STM-LQFP64_N (Thin QFP, 64-Leads, Body 10x10mm, Pitch 0.5mm, IPC Medium Density)
footprint STM-LQFP64_L (Thin QFP, 64-Leads, Body 10x10mm, Pitch 0.5mm, IPC High Density)
footprint STM-LQFP64_M (Thin QFP, 64-Leads, Body 10x10mm, Pitch 0.5mm, IPC Low Density)
footprint STM-LQFP64_V (Thin QFP, 64-Leads, Body 10x10mm, Pitch 0.5mm, ST Recommended)
part A pins: 2 PC13-WKUP2 (io) "PC13-WKUP2/PC13/WKUP2/RTC_TAMP1/RTC_TS/RTC_OUT", 3 PC14-OSC32_IN (io) "PC14-OSC32_IN/PC14/OSC32_IN", 4 PC15-OSC32_OUT (io) "PC15-OSC32_OUT/PC15/OSC32_OUT", 5 PH0-OSC_IN (io) "PH0-OSC_IN/PH0/OSC_IN", 6 PH1-OSC_OUT (io) "PH1-OSC_OUT/PH1/OSC_OUT", 7 NRST (io), 8 PC0 (io) "PC0/LCD_SEG18/ADC_IN10/COMP1_INP", 9 PC1 (io) "PC1/LCD_SEG19/ADC_IN11/COMP1_INP", 10 PC2 (io) "PC2/LCD_SEG20/ADC_IN12/COMP1_INP", 11 PC3 (io) "PC3/LCD_SEG21/ADC_IN13/COMP1_INP", 14 PA0-WKUP1 (io) "PA0-WKUP1/PA0/WKUP1/RTC_TAMP2/TIM2_CH1_ETR/TIM5_CH1/USART2_CTS/ADC_IN0/COMP1_INP", 15 PA1 (io) "PA1/TIM2_CH2/TIM5_CH2/USART2_RTS/LCD_SEG0/ADC_IN1/COMP1_INP/OPAMP1_VINP", 16 PA2 (io) "PA2/TIM2_CH3/TIM5_CH3/TIM9_CH1/USART2_TX/LCD_SEG1/ADC_IN2/COMP1_INP/OPAMP1_VINM", 17 PA3 (io) "PA3/TIM2_CH4/TIM5_CH4/TIM9_CH2/USART2_RX/LCD_SEG2/ADC_IN3/COMP1_INP/OPAMP1_VOUT", 20 PA4 (io) "PA4/SPI1_NSS/SPI3_NSS/I2S3_WS/USART2_CK/ADC_IN4/DAC_OUT1/COMP1_INP", 21 PA5 (io) "PA5/TIM2_CH1_ETR/SPI1_SCK/ADC_IN5/DAC_OUT2/COMP1_INP", 22 PA6 (io) "PA6/TIM3_CH1/TIM10_CH1/SPI1_MISO/LCD_SEG3/ADC_IN6/COMP1_INP/OPAMP2_VINP", 23 PA7 (io) "PA7/TIM3_CH2/TIM11_CH1/SPI1_MOSI/LCD_SEG4/ADC_IN7/COMP1_INP/OPAMP2_VINM", 24 PC4 (io) "PC4/LCD_SEG22/ADC_IN14/COMP1_INP", 25 PC5 (io) "PC5/LCD_SEG23/ADC_IN15/COMP1_INP", 26 PB0 (io) "PB0/TIM3_CH3/LCD_SEG5/ADC_IN8/COMP1_INP/VREF_OUT/OPAMP2_VOUT", 27 PB1 (io) "PB1/TIM3_CH4/LCD_SEG6/ADC_IN9/COMP1_INP/VREF_OUT", 28 PB2 (io) "PB2/BOOT1/COMP1_INP", 29 PB10 (io) "PB10/TIM2_CH3/I2C2_SCL/USART3_TX/LCD_SEG10", 30 PB11 (io) "PB11/TIM2_CH4/I2C2_SDA/USART3_RX/LCD_SEG11", 33 PB12 (io) "PB12/TIM10_CH1/I2C2_SMBA/SPI2_NSS/I2S2_WS/USART3_CK/LCD_SEG12/ADC_IN18/COMP1_INP", 34 PB13 (io) "PB13/TIM9_CH1/SPI2_SCK/I2S2_CK/USART3_CTS/LCD_SEG13/ADC_IN19/COMP1_INP", 35 PB14 (io) "PB14/TIM9_CH2/SPI2_MISO/USART3_RTS/LCD_SEG14/ADC_IN20/COMP1_INP", 36 PB15 (io) "PB15/TIM11_CH1/SPI2_MOSI/I2S2_SD/LCD_SEG15/ADC_IN21/COMP1_INP/RTC_REFIN", 37 PC6 (io) "PC6/TIM3_CH1/I2S2_MCK/LCD_SEG24", 38 PC7 (io) "PC7/TIM3_CH2/I2S3_MCK/LCD_SEG25", 39 PC8 (io) "PC8/TIM3_CH3/LCD_SEG26", 40 PC9 (io) "PC9/TIM3_CH4/LCD_SEG27", 41 PA8 (io) "PA8/USART1_CK/MCO/LCD_COM0", 42 PA9 (io) "PA9/USART1_TX/LCD_COM1", 43 PA10 (io) "PA10/USART1_RX/LCD_COM2", 44 PA11 (io) "PA11/USART1_CTS/USB_DM/SPI1_MISO", 45 PA12 (io) "PA12/USART1_RTS/USB_DP/SPI1_MOSI", 46 PA13 (io) "PA13/JTMS-SWDAT", 49 PA14 (io) "PA14/JTCK-SWCLK", 50 PA15 (io) "PA15/JTDI/TIM2_CH1_ETR/SPI1_NSS/SPI3_NSS/I2S3_WS/LCD_SEG17", 51 PC10 (io) "PC10/SPI3_SCK/I2S3_CK/USART3_TX/UART4_TX/LCD_SEG28/LCD_SEG40/LCD_COM4", 52 PC11 (io) "PC11/SPI3_MISO/USART3_RX/UART4_RX/LCD_SEG29/LCD_SEG41/LCD_COM5", 53 PC12 (io) "PC12/SPI3_MOSI/I2S3_SD/USART3_CK/UART5_TX/LCD_SEG30/LCD_SEG42/LCD_COM6", 54 PD2 (io) "PD2/TIM3_ETR/UART5_RX/LCD_SEG31/LCD_SEG43/LCD_COM7", 55 PB3 (io) "PB3/JTDO/TIM2_CH2/SPI1_SCK/SPI3_SCK/I2S3_CK/LCD_SEG7/COMP2_INM", 56 PB4 (io) "PB4/NJTRST/TIM3_CH1/SPI1_MISO/SPI3_MISO/LCD_SEG8/COMP2_INP", 57 PB5 (io) "PB5/TIM3_CH2/I2C1_SMBA/SPI1_MOSI/SPI3_MOSI/I2S3_SD/LCD_SEG9/COMP2_INP", 58 PB6 (io) "PB6/TIM4_CH1/I2C1_SCL/USART1_TX/COMP2_INP", 59 PB7 (io) "PB7/TIM4_CH2/I2C1_SDA/USART1_RX/PVD_IN/COMP2_INP", 60 BOOT0 (in), 61 PB8 (io) "PB8/TIM4_CH3/TIM10_CH1/I2C1_SCL/LCD_SEG16", 62 PB9 (io) "PB9/TIM4_CH4/TIM11_CH1/I2C1_SDA/LCD_COM3"
part B pins: 1 VLCD (power), 12 VSSA (power), 13 VDDA (power), 18 VSS_4 (power), 19 VDD_4 (power), 31 VSS_1 (power), 32 VDD_1 (power), 47 VSS_2 (power), 48 VDD_2 (power), 63 VSS_3 (power), 64 VDD_3 (power)

## STM32L152RET6D
designator U?
ARM Cortex-M3 32-bit MCU, 512 KB Flash, 80 KB Internal RAM, 51 I/Os, 64-pin LQFP, -40 to 85 degC, Tray; Manufacturer: STMicroelectronics; PartNumber: STM32L152RET6D; D/A Converter: 2x12-bit (2 Channel); Data E2PROM nom (KB): 16; FLASH Size (Prog) (kB): 512; I/Os (High Current): 51; Internal RAM Size (kB): 80; Operating Frequency(F) (Processor speed) (MHz): 32; Supply Voltage (V): 1.65 to 3.6 V; DatasheetVersion: Rev. 4; PackageVersion: Rev. 4; PackageReference: LQFP64; PackageDescription: 64-Pin Low Profile Quad Flat Package, Body 10 x 10 mm, Pitch 0.5 mm; Core: ARM Cortex-M3; Temperature Range: -40 to 85 degC; Packing: Tray; Mounting Technology: Surface Mount; ComponentLink1Description: Manufacturer URL; ComponentLink1URL: http://www.st.com/web/en/home.html; ComponentLink2Description: Datasheet; ComponentLink2URL: http://www.st.com/st-web-ui/static/active/en/resource/technical/document/datasheet/DM00098321.pdf; ComponentLink3Description: Package Specification; ComponentLink3URL: http://www.st.com/st-web-ui/static/active/en/resource/technical/document/datasheet/DM00098321.pdf
footprint STM-LQFP64_N (Thin QFP, 64-Leads, Body 10x10mm, Pitch 0.5mm, IPC Medium Density)
footprint STM-LQFP64_L (Thin QFP, 64-Leads, Body 10x10mm, Pitch 0.5mm, IPC High Density)
footprint STM-LQFP64_M (Thin QFP, 64-Leads, Body 10x10mm, Pitch 0.5mm, IPC Low Density)
footprint STM-LQFP64_V (Thin QFP, 64-Leads, Body 10x10mm, Pitch 0.5mm, ST Recommended)
part A pins: 2 PC13-WKUP2 (io) "PC13-WKUP2/PC13/WKUP2/RTC_TAMP1/RTC_TS/RTC_OUT", 3 PC14-OSC32_IN (io) "PC14-OSC32_IN/PC14/OSC32_IN", 4 PC15-OSC32_OUT (io) "PC15-OSC32_OUT/PC15/OSC32_OUT", 5 PH0-OSC_IN (io) "PH0-OSC_IN/PH0/OSC_IN", 6 PH1-OSC_OUT (io) "PH1-OSC_OUT/PH1/OSC_OUT", 7 NRST (io), 8 PC0 (io) "PC0/LCD_SEG18/ADC_IN10/COMP1_INP", 9 PC1 (io) "PC1/LCD_SEG19/ADC_IN11/COMP1_INP", 10 PC2 (io) "PC2/LCD_SEG20/ADC_IN12/COMP1_INP", 11 PC3 (io) "PC3/LCD_SEG21/ADC_IN13/COMP1_INP", 14 PA0-WKUP1 (io) "PA0-WKUP1/PA0/WKUP1/RTC_TAMP2/TIM2_CH1_ETR/TIM5_CH1/USART2_CTS/ADC_IN0/COMP1_INP", 15 PA1 (io) "PA1/TIM2_CH2/TIM5_CH2/USART2_RTS/LCD_SEG0/ADC_IN1/COMP1_INP/OPAMP1_VINP", 16 PA2 (io) "PA2/TIM2_CH3/TIM5_CH3/TIM9_CH1/USART2_TX/LCD_SEG1/ADC_IN2/COMP1_INP/OPAMP1_VINM", 17 PA3 (io) "PA3/TIM2_CH4/TIM5_CH4/TIM9_CH2/USART2_RX/LCD_SEG2/ADC_IN3/COMP1_INP/OPAMP1_VOUT", 20 PA4 (io) "PA4/SPI1_NSS/SPI3_NSS/I2S3_WS/USART2_CK/ADC_IN4/DAC_OUT1/COMP1_INP", 21 PA5 (io) "PA5/TIM2_CH1_ETR/SPI1_SCK/ADC_IN5/DAC_OUT2/COMP1_INP", 22 PA6 (io) "PA6/TIM3_CH1/TIM10_CH1/SPI1_MISO/LCD_SEG3/ADC_IN6/COMP1_INP/OPAMP2_VINP", 23 PA7 (io) "PA7/TIM3_CH2/TIM11_CH1/SPI1_MOSI/LCD_SEG4/ADC_IN7/COMP1_INP/OPAMP2_VINM", 24 PC4 (io) "PC4/LCD_SEG22/ADC_IN14/COMP1_INP", 25 PC5 (io) "PC5/LCD_SEG23/ADC_IN15/COMP1_INP", 26 PB0 (io) "PB0/TIM3_CH3/LCD_SEG5/ADC_IN8/COMP1_INP/VREF_OUT/OPAMP2_VOUT", 27 PB1 (io) "PB1/TIM3_CH4/LCD_SEG6/ADC_IN9/COMP1_INP/VREF_OUT", 28 PB2 (io) "PB2/BOOT1/COMP1_INP", 29 PB10 (io) "PB10/TIM2_CH3/I2C2_SCL/USART3_TX/LCD_SEG10", 30 PB11 (io) "PB11/TIM2_CH4/I2C2_SDA/USART3_RX/LCD_SEG11", 33 PB12 (io) "PB12/TIM10_CH1/I2C2_SMBA/SPI2_NSS/I2S2_WS/USART3_CK/LCD_SEG12/ADC_IN18/COMP1_INP", 34 PB13 (io) "PB13/TIM9_CH1/SPI2_SCK/I2S2_CK/USART3_CTS/LCD_SEG13/ADC_IN19/COMP1_INP", 35 PB14 (io) "PB14/TIM9_CH2/SPI2_MISO/USART3_RTS/LCD_SEG14/ADC_IN20/COMP1_INP", 36 PB15 (io) "PB15/TIM11_CH1/SPI2_MOSI/I2S2_SD/LCD_SEG15/ADC_IN21/COMP1_INP/RTC_REFIN", 37 PC6 (io) "PC6/TIM3_CH1/I2S2_MCK/LCD_SEG24", 38 PC7 (io) "PC7/TIM3_CH2/I2S3_MCK/LCD_SEG25", 39 PC8 (io) "PC8/TIM3_CH3/LCD_SEG26", 40 PC9 (io) "PC9/TIM3_CH4/LCD_SEG27", 41 PA8 (io) "PA8/USART1_CK/MCO/LCD_COM0", 42 PA9 (io) "PA9/USART1_TX/LCD_COM1", 43 PA10 (io) "PA10/USART1_RX/LCD_COM2", 44 PA11 (io) "PA11/USART1_CTS/USB_DM/SPI1_MISO", 45 PA12 (io) "PA12/USART1_RTS/USB_DP/SPI1_MOSI", 46 PA13 (io) "PA13/JTMS-SWDAT", 49 PA14 (io) "PA14/JTCK-SWCLK", 50 PA15 (io) "PA15/JTDI/TIM2_CH1_ETR/SPI1_NSS/SPI3_NSS/I2S3_WS/LCD_SEG17", 51 PC10 (io) "PC10/SPI3_SCK/I2S3_CK/USART3_TX/UART4_TX/LCD_SEG28/LCD_SEG40/LCD_COM4", 52 PC11 (io) "PC11/SPI3_MISO/USART3_RX/UART4_RX/LCD_SEG29/LCD_SEG41/LCD_COM5", 53 PC12 (io) "PC12/SPI3_MOSI/I2S3_SD/USART3_CK/UART5_TX/LCD_SEG30/LCD_SEG42/LCD_COM6", 54 PD2 (io) "PD2/TIM3_ETR/UART5_RX/LCD_SEG31/LCD_SEG43/LCD_COM7", 55 PB3 (io) "PB3/JTDO/TIM2_CH2/SPI1_SCK/SPI3_SCK/I2S3_CK/LCD_SEG7/COMP2_INM", 56 PB4 (io) "PB4/NJTRST/TIM3_CH1/SPI1_MISO/SPI3_MISO/LCD_SEG8/COMP2_INP", 57 PB5 (io) "PB5/TIM3_CH2/I2C1_SMBA/SPI1_MOSI/SPI3_MOSI/I2S3_SD/LCD_SEG9/COMP2_INP", 58 PB6 (io) "PB6/TIM4_CH1/I2C1_SCL/USART1_TX/COMP2_INP", 59 PB7 (io) "PB7/TIM4_CH2/I2C1_SDA/USART1_RX/PVD_IN/COMP2_INP", 60 BOOT0 (in), 61 PB8 (io) "PB8/TIM4_CH3/TIM10_CH1/I2C1_SCL/LCD_SEG16", 62 PB9 (io) "PB9/TIM4_CH4/TIM11_CH1/I2C1_SDA/LCD_COM3"
part B pins: 1 VLCD (power), 12 VSSA (power), 13 VDDA (power), 18 VSS_4 (power), 19 VDD_4 (power), 31 VSS_1 (power), 32 VDD_1 (power), 47 VSS_2 (power), 48 VDD_2 (power), 63 VSS_3 (power), 64 VDD_3 (power)

## STM32L152RET6DTR
designator U?
ARM Cortex-M3 32-bit MCU, 512 KB Flash, 80 KB Internal RAM, 51 I/Os, 64-pin LQFP, -40 to 85 degC, Tape and Reel; Manufacturer: STMicroelectronics; PartNumber: STM32L152RET6DTR; D/A Converter: 2x12-bit (2 Channel); Data E2PROM nom (KB): 16; FLASH Size (Prog) (kB): 512; I/Os (High Current): 51; Internal RAM Size (kB): 80; Operating Frequency(F) (Processor speed) (MHz): 32; Supply Voltage (V): 1.65 to 3.6 V; DatasheetVersion: Rev. 4; PackageVersion: Rev. 4; PackageReference: LQFP64; PackageDescription: 64-Pin Low Profile Quad Flat Package, Body 10 x 10 mm, Pitch 0.5 mm; Core: ARM Cortex-M3; Temperature Range: -40 to 85 degC; Packing: Tape and Reel; Mounting Technology: Surface Mount; ComponentLink1Description: Manufacturer URL; ComponentLink1URL: http://www.st.com/web/en/home.html; ComponentLink2Description: Datasheet; ComponentLink2URL: http://www.st.com/st-web-ui/static/active/en/resource/technical/document/datasheet/DM00098321.pdf; ComponentLink3Description: Package Specification; ComponentLink3URL: http://www.st.com/st-web-ui/static/active/en/resource/technical/document/datasheet/DM00098321.pdf
footprint STM-LQFP64_N (Thin QFP, 64-Leads, Body 10x10mm, Pitch 0.5mm, IPC Medium Density)
footprint STM-LQFP64_L (Thin QFP, 64-Leads, Body 10x10mm, Pitch 0.5mm, IPC High Density)
footprint STM-LQFP64_M (Thin QFP, 64-Leads, Body 10x10mm, Pitch 0.5mm, IPC Low Density)
footprint STM-LQFP64_V (Thin QFP, 64-Leads, Body 10x10mm, Pitch 0.5mm, ST Recommended)
part A pins: 2 PC13-WKUP2 (io) "PC13-WKUP2/PC13/WKUP2/RTC_TAMP1/RTC_TS/RTC_OUT", 3 PC14-OSC32_IN (io) "PC14-OSC32_IN/PC14/OSC32_IN", 4 PC15-OSC32_OUT (io) "PC15-OSC32_OUT/PC15/OSC32_OUT", 5 PH0-OSC_IN (io) "PH0-OSC_IN/PH0/OSC_IN", 6 PH1-OSC_OUT (io) "PH1-OSC_OUT/PH1/OSC_OUT", 7 NRST (io), 8 PC0 (io) "PC0/LCD_SEG18/ADC_IN10/COMP1_INP", 9 PC1 (io) "PC1/LCD_SEG19/ADC_IN11/COMP1_INP", 10 PC2 (io) "PC2/LCD_SEG20/ADC_IN12/COMP1_INP", 11 PC3 (io) "PC3/LCD_SEG21/ADC_IN13/COMP1_INP", 14 PA0-WKUP1 (io) "PA0-WKUP1/PA0/WKUP1/RTC_TAMP2/TIM2_CH1_ETR/TIM5_CH1/USART2_CTS/ADC_IN0/COMP1_INP", 15 PA1 (io) "PA1/TIM2_CH2/TIM5_CH2/USART2_RTS/LCD_SEG0/ADC_IN1/COMP1_INP/OPAMP1_VINP", 16 PA2 (io) "PA2/TIM2_CH3/TIM5_CH3/TIM9_CH1/USART2_TX/LCD_SEG1/ADC_IN2/COMP1_INP/OPAMP1_VINM", 17 PA3 (io) "PA3/TIM2_CH4/TIM5_CH4/TIM9_CH2/USART2_RX/LCD_SEG2/ADC_IN3/COMP1_INP/OPAMP1_VOUT", 20 PA4 (io) "PA4/SPI1_NSS/SPI3_NSS/I2S3_WS/USART2_CK/ADC_IN4/DAC_OUT1/COMP1_INP", 21 PA5 (io) "PA5/TIM2_CH1_ETR/SPI1_SCK/ADC_IN5/DAC_OUT2/COMP1_INP", 22 PA6 (io) "PA6/TIM3_CH1/TIM10_CH1/SPI1_MISO/LCD_SEG3/ADC_IN6/COMP1_INP/OPAMP2_VINP", 23 PA7 (io) "PA7/TIM3_CH2/TIM11_CH1/SPI1_MOSI/LCD_SEG4/ADC_IN7/COMP1_INP/OPAMP2_VINM", 24 PC4 (io) "PC4/LCD_SEG22/ADC_IN14/COMP1_INP", 25 PC5 (io) "PC5/LCD_SEG23/ADC_IN15/COMP1_INP", 26 PB0 (io) "PB0/TIM3_CH3/LCD_SEG5/ADC_IN8/COMP1_INP/VREF_OUT/OPAMP2_VOUT", 27 PB1 (io) "PB1/TIM3_CH4/LCD_SEG6/ADC_IN9/COMP1_INP/VREF_OUT", 28 PB2 (io) "PB2/BOOT1/COMP1_INP", 29 PB10 (io) "PB10/TIM2_CH3/I2C2_SCL/USART3_TX/LCD_SEG10", 30 PB11 (io) "PB11/TIM2_CH4/I2C2_SDA/USART3_RX/LCD_SEG11", 33 PB12 (io) "PB12/TIM10_CH1/I2C2_SMBA/SPI2_NSS/I2S2_WS/USART3_CK/LCD_SEG12/ADC_IN18/COMP1_INP", 34 PB13 (io) "PB13/TIM9_CH1/SPI2_SCK/I2S2_CK/USART3_CTS/LCD_SEG13/ADC_IN19/COMP1_INP", 35 PB14 (io) "PB14/TIM9_CH2/SPI2_MISO/USART3_RTS/LCD_SEG14/ADC_IN20/COMP1_INP", 36 PB15 (io) "PB15/TIM11_CH1/SPI2_MOSI/I2S2_SD/LCD_SEG15/ADC_IN21/COMP1_INP/RTC_REFIN", 37 PC6 (io) "PC6/TIM3_CH1/I2S2_MCK/LCD_SEG24", 38 PC7 (io) "PC7/TIM3_CH2/I2S3_MCK/LCD_SEG25", 39 PC8 (io) "PC8/TIM3_CH3/LCD_SEG26", 40 PC9 (io) "PC9/TIM3_CH4/LCD_SEG27", 41 PA8 (io) "PA8/USART1_CK/MCO/LCD_COM0", 42 PA9 (io) "PA9/USART1_TX/LCD_COM1", 43 PA10 (io) "PA10/USART1_RX/LCD_COM2", 44 PA11 (io) "PA11/USART1_CTS/USB_DM/SPI1_MISO", 45 PA12 (io) "PA12/USART1_RTS/USB_DP/SPI1_MOSI", 46 PA13 (io) "PA13/JTMS-SWDAT", 49 PA14 (io) "PA14/JTCK-SWCLK", 50 PA15 (io) "PA15/JTDI/TIM2_CH1_ETR/SPI1_NSS/SPI3_NSS/I2S3_WS/LCD_SEG17", 51 PC10 (io) "PC10/SPI3_SCK/I2S3_CK/USART3_TX/UART4_TX/LCD_SEG28/LCD_SEG40/LCD_COM4", 52 PC11 (io) "PC11/SPI3_MISO/USART3_RX/UART4_RX/LCD_SEG29/LCD_SEG41/LCD_COM5", 53 PC12 (io) "PC12/SPI3_MOSI/I2S3_SD/USART3_CK/UART5_TX/LCD_SEG30/LCD_SEG42/LCD_COM6", 54 PD2 (io) "PD2/TIM3_ETR/UART5_RX/LCD_SEG31/LCD_SEG43/LCD_COM7", 55 PB3 (io) "PB3/JTDO/TIM2_CH2/SPI1_SCK/SPI3_SCK/I2S3_CK/LCD_SEG7/COMP2_INM", 56 PB4 (io) "PB4/NJTRST/TIM3_CH1/SPI1_MISO/SPI3_MISO/LCD_SEG8/COMP2_INP", 57 PB5 (io) "PB5/TIM3_CH2/I2C1_SMBA/SPI1_MOSI/SPI3_MOSI/I2S3_SD/LCD_SEG9/COMP2_INP", 58 PB6 (io) "PB6/TIM4_CH1/I2C1_SCL/USART1_TX/COMP2_INP", 59 PB7 (io) "PB7/TIM4_CH2/I2C1_SDA/USART1_RX/PVD_IN/COMP2_INP", 60 BOOT0 (in), 61 PB8 (io) "PB8/TIM4_CH3/TIM10_CH1/I2C1_SCL/LCD_SEG16", 62 PB9 (io) "PB9/TIM4_CH4/TIM11_CH1/I2C1_SDA/LCD_COM3"
part B pins: 1 VLCD (power), 12 VSSA (power), 13 VDDA (power), 18 VSS_4 (power), 19 VDD_4 (power), 31 VSS_1 (power), 32 VDD_1 (power), 47 VSS_2 (power), 48 VDD_2 (power), 63 VSS_3 (power), 64 VDD_3 (power)

## STM32L152RET6TR
designator U?
ARM Cortex-M3 32-bit MCU, 512 KB Flash, 80 KB Internal RAM, 51 I/Os, 64-pin LQFP, -40 to 85 degC, Tape and Reel; Manufacturer: STMicroelectronics; PartNumber: STM32L152RET6TR; D/A Converter: 2x12-bit (2 Channel); Data E2PROM nom (KB): 16; FLASH Size (Prog) (kB): 512; I/Os (High Current): 51; Internal RAM Size (kB): 80; Operating Frequency(F) (Processor speed) (MHz): 32; Supply Voltage (V): 1.8 to 3.6 V; DatasheetVersion: Rev. 4; PackageVersion: Rev. 4; PackageReference: LQFP64; PackageDescription: 64-Pin Low Profile Quad Flat Package, Body 10 x 10 mm, Pitch 0.5 mm; Core: ARM Cortex-M3; Temperature Range: -40 to 85 degC; Packing: Tape and Reel; Mounting Technology: Surface Mount; ComponentLink1Description: Manufacturer URL; ComponentLink1URL: http://www.st.com/web/en/home.html; ComponentLink2Description: Datasheet; ComponentLink2URL: http://www.st.com/st-web-ui/static/active/en/resource/technical/document/datasheet/DM00098321.pdf; ComponentLink3Description: Package Specification; ComponentLink3URL: http://www.st.com/st-web-ui/static/active/en/resource/technical/document/datasheet/DM00098321.pdf
footprint STM-LQFP64_N (Thin QFP, 64-Leads, Body 10x10mm, Pitch 0.5mm, IPC Medium Density)
footprint STM-LQFP64_L (Thin QFP, 64-Leads, Body 10x10mm, Pitch 0.5mm, IPC High Density)
footprint STM-LQFP64_M (Thin QFP, 64-Leads, Body 10x10mm, Pitch 0.5mm, IPC Low Density)
footprint STM-LQFP64_V (Thin QFP, 64-Leads, Body 10x10mm, Pitch 0.5mm, ST Recommended)
part A pins: 2 PC13-WKUP2 (io) "PC13-WKUP2/PC13/WKUP2/RTC_TAMP1/RTC_TS/RTC_OUT", 3 PC14-OSC32_IN (io) "PC14-OSC32_IN/PC14/OSC32_IN", 4 PC15-OSC32_OUT (io) "PC15-OSC32_OUT/PC15/OSC32_OUT", 5 PH0-OSC_IN (io) "PH0-OSC_IN/PH0/OSC_IN", 6 PH1-OSC_OUT (io) "PH1-OSC_OUT/PH1/OSC_OUT", 7 NRST (io), 8 PC0 (io) "PC0/LCD_SEG18/ADC_IN10/COMP1_INP", 9 PC1 (io) "PC1/LCD_SEG19/ADC_IN11/COMP1_INP", 10 PC2 (io) "PC2/LCD_SEG20/ADC_IN12/COMP1_INP", 11 PC3 (io) "PC3/LCD_SEG21/ADC_IN13/COMP1_INP", 14 PA0-WKUP1 (io) "PA0-WKUP1/PA0/WKUP1/RTC_TAMP2/TIM2_CH1_ETR/TIM5_CH1/USART2_CTS/ADC_IN0/COMP1_INP", 15 PA1 (io) "PA1/TIM2_CH2/TIM5_CH2/USART2_RTS/LCD_SEG0/ADC_IN1/COMP1_INP/OPAMP1_VINP", 16 PA2 (io) "PA2/TIM2_CH3/TIM5_CH3/TIM9_CH1/USART2_TX/LCD_SEG1/ADC_IN2/COMP1_INP/OPAMP1_VINM", 17 PA3 (io) "PA3/TIM2_CH4/TIM5_CH4/TIM9_CH2/USART2_RX/LCD_SEG2/ADC_IN3/COMP1_INP/OPAMP1_VOUT", 20 PA4 (io) "PA4/SPI1_NSS/SPI3_NSS/I2S3_WS/USART2_CK/ADC_IN4/DAC_OUT1/COMP1_INP", 21 PA5 (io) "PA5/TIM2_CH1_ETR/SPI1_SCK/ADC_IN5/DAC_OUT2/COMP1_INP", 22 PA6 (io) "PA6/TIM3_CH1/TIM10_CH1/SPI1_MISO/LCD_SEG3/ADC_IN6/COMP1_INP/OPAMP2_VINP", 23 PA7 (io) "PA7/TIM3_CH2/TIM11_CH1/SPI1_MOSI/LCD_SEG4/ADC_IN7/COMP1_INP/OPAMP2_VINM", 24 PC4 (io) "PC4/LCD_SEG22/ADC_IN14/COMP1_INP", 25 PC5 (io) "PC5/LCD_SEG23/ADC_IN15/COMP1_INP", 26 PB0 (io) "PB0/TIM3_CH3/LCD_SEG5/ADC_IN8/COMP1_INP/VREF_OUT/OPAMP2_VOUT", 27 PB1 (io) "PB1/TIM3_CH4/LCD_SEG6/ADC_IN9/COMP1_INP/VREF_OUT", 28 PB2 (io) "PB2/BOOT1/COMP1_INP", 29 PB10 (io) "PB10/TIM2_CH3/I2C2_SCL/USART3_TX/LCD_SEG10", 30 PB11 (io) "PB11/TIM2_CH4/I2C2_SDA/USART3_RX/LCD_SEG11", 33 PB12 (io) "PB12/TIM10_CH1/I2C2_SMBA/SPI2_NSS/I2S2_WS/USART3_CK/LCD_SEG12/ADC_IN18/COMP1_INP", 34 PB13 (io) "PB13/TIM9_CH1/SPI2_SCK/I2S2_CK/USART3_CTS/LCD_SEG13/ADC_IN19/COMP1_INP", 35 PB14 (io) "PB14/TIM9_CH2/SPI2_MISO/USART3_RTS/LCD_SEG14/ADC_IN20/COMP1_INP", 36 PB15 (io) "PB15/TIM11_CH1/SPI2_MOSI/I2S2_SD/LCD_SEG15/ADC_IN21/COMP1_INP/RTC_REFIN", 37 PC6 (io) "PC6/TIM3_CH1/I2S2_MCK/LCD_SEG24", 38 PC7 (io) "PC7/TIM3_CH2/I2S3_MCK/LCD_SEG25", 39 PC8 (io) "PC8/TIM3_CH3/LCD_SEG26", 40 PC9 (io) "PC9/TIM3_CH4/LCD_SEG27", 41 PA8 (io) "PA8/USART1_CK/MCO/LCD_COM0", 42 PA9 (io) "PA9/USART1_TX/LCD_COM1", 43 PA10 (io) "PA10/USART1_RX/LCD_COM2", 44 PA11 (io) "PA11/USART1_CTS/USB_DM/SPI1_MISO", 45 PA12 (io) "PA12/USART1_RTS/USB_DP/SPI1_MOSI", 46 PA13 (io) "PA13/JTMS-SWDAT", 49 PA14 (io) "PA14/JTCK-SWCLK", 50 PA15 (io) "PA15/JTDI/TIM2_CH1_ETR/SPI1_NSS/SPI3_NSS/I2S3_WS/LCD_SEG17", 51 PC10 (io) "PC10/SPI3_SCK/I2S3_CK/USART3_TX/UART4_TX/LCD_SEG28/LCD_SEG40/LCD_COM4", 52 PC11 (io) "PC11/SPI3_MISO/USART3_RX/UART4_RX/LCD_SEG29/LCD_SEG41/LCD_COM5", 53 PC12 (io) "PC12/SPI3_MOSI/I2S3_SD/USART3_CK/UART5_TX/LCD_SEG30/LCD_SEG42/LCD_COM6", 54 PD2 (io) "PD2/TIM3_ETR/UART5_RX/LCD_SEG31/LCD_SEG43/LCD_COM7", 55 PB3 (io) "PB3/JTDO/TIM2_CH2/SPI1_SCK/SPI3_SCK/I2S3_CK/LCD_SEG7/COMP2_INM", 56 PB4 (io) "PB4/NJTRST/TIM3_CH1/SPI1_MISO/SPI3_MISO/LCD_SEG8/COMP2_INP", 57 PB5 (io) "PB5/TIM3_CH2/I2C1_SMBA/SPI1_MOSI/SPI3_MOSI/I2S3_SD/LCD_SEG9/COMP2_INP", 58 PB6 (io) "PB6/TIM4_CH1/I2C1_SCL/USART1_TX/COMP2_INP", 59 PB7 (io) "PB7/TIM4_CH2/I2C1_SDA/USART1_RX/PVD_IN/COMP2_INP", 60 BOOT0 (in), 61 PB8 (io) "PB8/TIM4_CH3/TIM10_CH1/I2C1_SCL/LCD_SEG16", 62 PB9 (io) "PB9/TIM4_CH4/TIM11_CH1/I2C1_SDA/LCD_COM3"
part B pins: 1 VLCD (power), 12 VSSA (power), 13 VDDA (power), 18 VSS_4 (power), 19 VDD_4 (power), 31 VSS_1 (power), 32 VDD_1 (power), 47 VSS_2 (power), 48 VDD_2 (power), 63 VSS_3 (power), 64 VDD_3 (power)

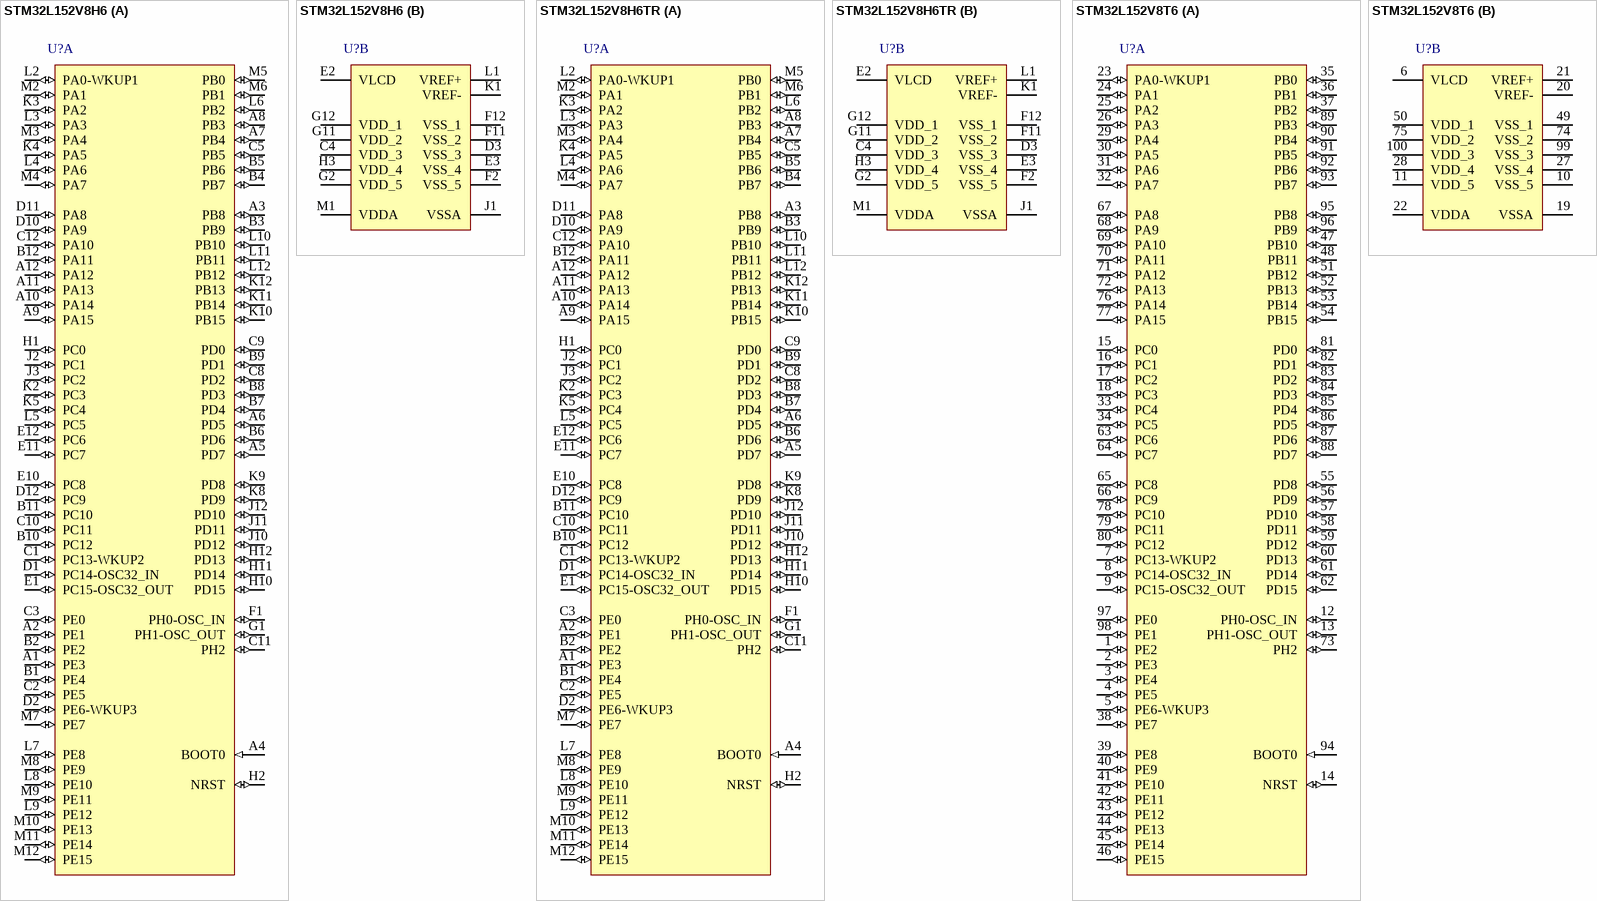
[diagram p139: symbols STM32L152V8H6 to STM32L152V8T6]